# Altium schematic symbol library XM-05.SchLib: 1 symbol
Pins are listed as number, name and electrical type; pins without a type are passive.

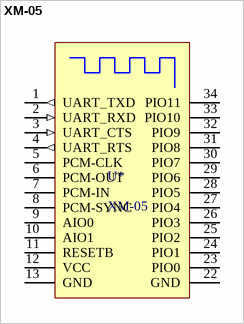
[diagram p0: symbol XM-05]

## XM-05
designator U*
footprint XM-05 (26 pin 1.5mm bluetooth module)
pins: 1 UART_TXD (out), 2 UART_RXD (in), 3 UART_CTS (in), 4 UART_RTS (out), 5 PCM-CLK, 6 PCM-OUT, 7 PCM-IN, 8 PCM-SYNC, 9 AIO0, 10 AIO1, 11 RESETB, 12 VCC (power), 13 GND, 22 GND, 23 PIO0, 24 PIO1, 25 PIO2, 26 PIO3, 27 PIO4, 28 PIO5, 29 PIO6, 30 PIO7, 31 PIO8, 32 PIO9, 33 PIO10, 34 PIO11